# EAGLE library part B39871B3717U410 (library LoRa Gateway)
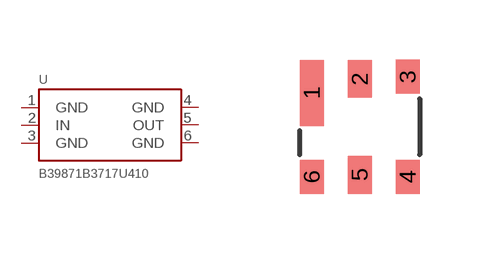
[diagram p2: symbol with the pads of DCC6C-3X3; footprint DCC6C-3X3]

Designator prefix U

## B39871B3717U410  [DCC6C-3X3]
1  GND
2  IN
3  GND
4  GND
5  OUT
6  GND

## Footprint DCC6C-3X3 (pad centres in mm)
smd 0.6 x 1.65: 1 -1.2,0.85
smd 0.6 x 0.95: 2 0,1.2; 5 0,-1.2
smd 0.6 x 0.85: 3 1.2,1.25; 4 1.2,-1.25; 6 -1.2,-1.25